# Altium schematic symbol library D_TVS_BIDIR_B2B.SchLib: 1 symbol
Pins are listed as number, name and electrical type; pins without a type are passive.

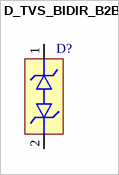
[diagram p0: symbol D_TVS_BIDIR_B2B]

## D_TVS_BIDIR_B2B
designator D?
pins: 1, 2